# EAGLE library part RD9S-PINHEADER (library RD9S-PINHEADER)
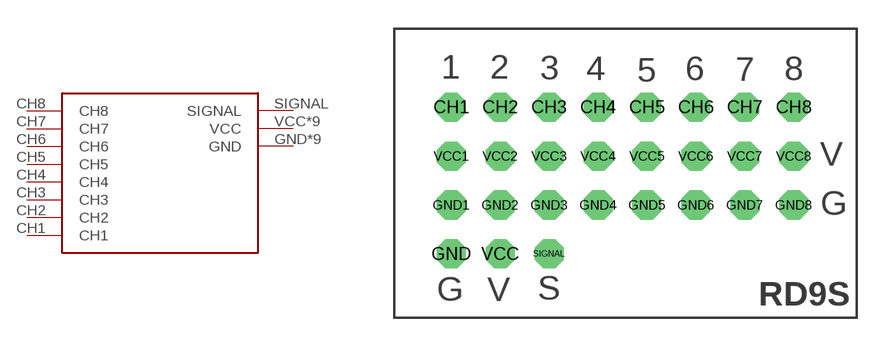
[diagram p0: symbol with the pads of RD9S_PINHEADER; footprint RD9S_PINHEADER]

Designator prefix -

## RD9S-PINHEADER  [RD9S_PINHEADER]
CH1  CH1
CH2  CH2
CH3  CH3
CH4  CH4
CH5  CH5
CH6  CH6
CH7  CH7
CH8  CH8
GND  GND
GND1  GND
GND2  GND
GND3  GND
GND4  GND
GND5  GND
GND6  GND
GND7  GND
GND8  GND
SIGNAL  SIGNAL
VCC  VCC
VCC1  VCC
VCC2  VCC
VCC3  VCC
VCC4  VCC
VCC5  VCC
VCC6  VCC
VCC7  VCC
VCC8  VCC

## Footprint RD9S_PINHEADER (pad centres in mm)
drill 1 octagon: CH1 -8.845,3.718; CH2 -6.305,3.718; CH3 -3.765,3.718; CH4 -1.225,3.718; CH5 1.315,3.718; CH6 3.855,3.718; CH7 6.395,3.718; CH8 8.935,3.718; GND -8.845,-3.902; GND1 -8.845,-1.362; GND2 -6.305,-1.362; GND3 -3.765,-1.362; GND4 -1.225,-1.362; GND5 1.315,-1.362; GND6 3.855,-1.362; GND7 6.395,-1.362; GND8 8.935,-1.362; SIGNAL -3.765,-3.902; VCC -6.305,-3.902; VCC1 -8.845,1.178; VCC2 -6.305,1.178; VCC3 -3.765,1.178; VCC4 -1.225,1.178; VCC5 1.315,1.178; VCC6 3.855,1.178; VCC7 6.395,1.178; VCC8 8.935,1.178